# Altium footprint library OLEDp96MOD.PcbLib: 1 footprints
Each footprint in its own frame and in the unit in brackets; x right, y up, seen from the top. Pads: shape width x height; smd on the part's side, far side on the other; paste and mask are expansions set on the pad; w line width, h text height; cw(c..) or ccw(c..) is an arc to the next point about the centre after c.
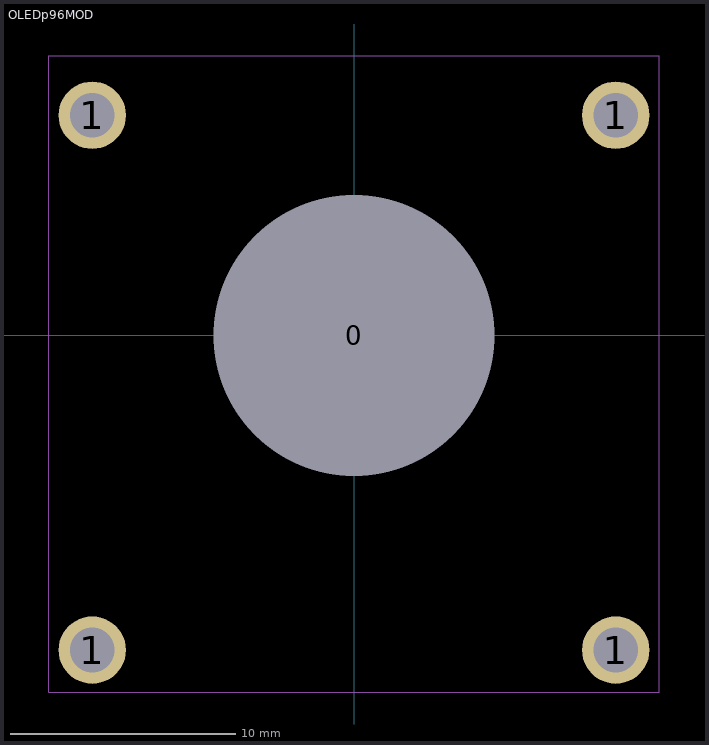
[diagram p0: the footprint, top view; thin cyan lines are the x and y axes]

## OLEDp96MOD [mm]
pads (5):
  round 1.524 hole 12.5 square unplated: 0(0,0)
  round 3 hole 2: 1(-11.65,-14) 1(-11.65,9.8) 1(11.65,-14) 1(11.65,9.8)
Mechanical 15:
  lines w0.05: -0.508,0 0.508,0 ; 0,-0.508 0,0.508 ; -13.589,-15.875 13.589,-15.875 13.589,12.446 -13.589,12.446 -13.589,-15.875
3D body "OLED-128x64-0.96.step": height -0.33, standoff -11.17, extent -13.35,-15.668 13.35,12.192